# EAGLE library part TS5A23157 (library nonolith)
DUAL SPDT SWITCH: TS5A23157DGSR
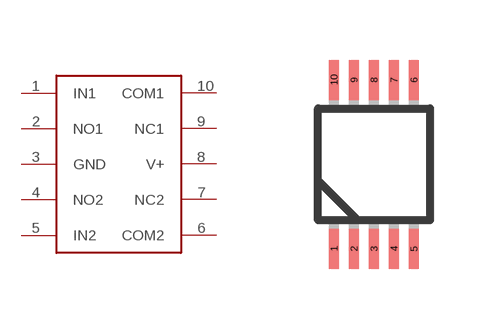
[diagram p5: symbol with the pads of MSOP10; footprint MSOP10]

Designator prefix -

## TS5A23157  [MSOP10]
1  IN1
2  NO1
3  GND
4  NO2
5  IN2
6  COM2
7  NC2
8  V+
9  NC1
10  COM1

## Footprint MSOP10 (pad centres in mm)
MSOP10 - .5mm
smd 0.25 x 1: 1 -1,-2.113; 2 -0.5,-2.113; 3 0,-2.113; 4 0.5,-2.113; 5 1,-2.113; 6 1,2.113; 7 0.5,2.113; 8 0,2.113; 9 -0.5,2.113; 10 -1,2.113